# EAGLE library part 22-?-09 (library battery_plug)
CONNECTOR wire to board 2.54 mm (.1 inch) pitch header
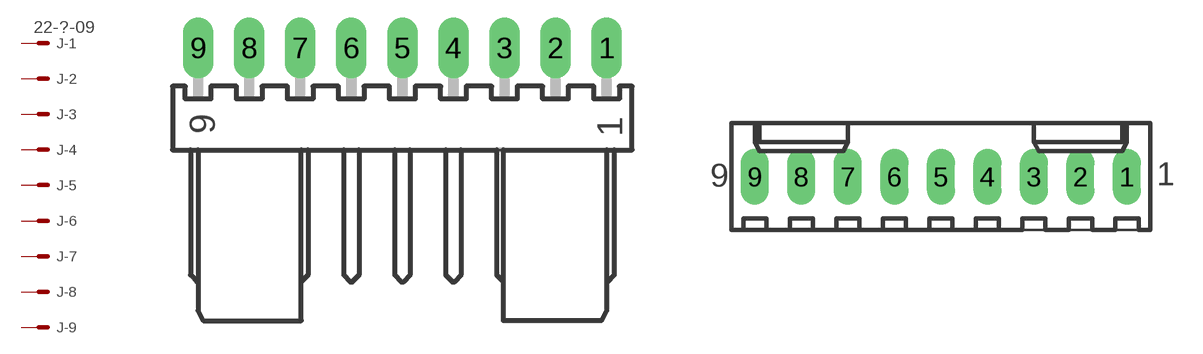
[diagram p27: symbol with the pads of 7395-09; footprints 7395-09, 6410-09]

Designator prefix J; gates -1=MV -2=M -3=M -4=M -5=M -6=M -7=M -8=M -9=M

## 22-05-7098-09  [7395-09]
1  -1:S  pas
2  -2:S  pas
3  -3:S  pas
4  -4:S  pas
5  -5:S  pas
6  -6:S  pas
7  -7:S  pas
8  -8:S  pas
9  -9:S  pas

## 22-27-2091-09  [6410-09]
Pads as for 7395-09

## Footprint 7395-09 (pad centres in mm)
MOLEX 2.54mm KK RA CONNECTOR Fixed Orientation
drill 1.016 long: 1 10.16,0; 2 7.62,0; 3 5.08,0; 4 2.54,0; 5 0,0; 6 -2.54,0; 7 -5.08,0; 8 -7.62,0; 9 -10.16,0

## Footprint 6410-09 (pad centres in mm)
MOLEX 2.54mm KK CONNECTOR
drill 1.016 long: 1 10.16,0; 2 7.62,0; 3 5.08,0; 4 2.54,0; 5 0,0; 6 -2.54,0; 7 -5.08,0; 8 -7.62,0; 9 -10.16,0